# EAGLE library part RESISTORARRAY (library SobieskiSat2)
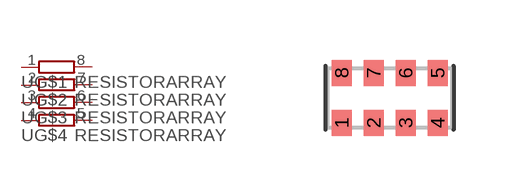
[diagram p18: symbol with the pads of 0603-ARC; footprint 0603-ARC]

Designator prefix -; gates G$1=R1NV G$2=R1NV G$3=R1NV G$4=R1NV

## RESISTORARRAY  [0603-ARC]
1  G$1:1  pas
2  G$2:1  pas
3  G$3:1  pas
4  G$4:1  pas
5  G$4:2  pas
6  G$3:2  pas
7  G$2:2  pas
8  G$1:2  pas

## Footprint 0603-ARC (pad centres in mm)
Chip Resistor Array size 4 × 0603 concave termination - Phycomp Components Source: RS Components
smd 0.5 x 0.65: 1 -1.2,-0.625; 2 -0.4,-0.625; 3 0.4,-0.625; 4 1.2,-0.625; 5 1.2,0.625; 6 0.4,0.625; 7 -0.4,0.625; 8 -1.2,0.625